# Altium schematic symbol library MICROCHIP.SchLib: 1 symbol
Pins are listed as number, name and electrical type; pins without a type are passive.

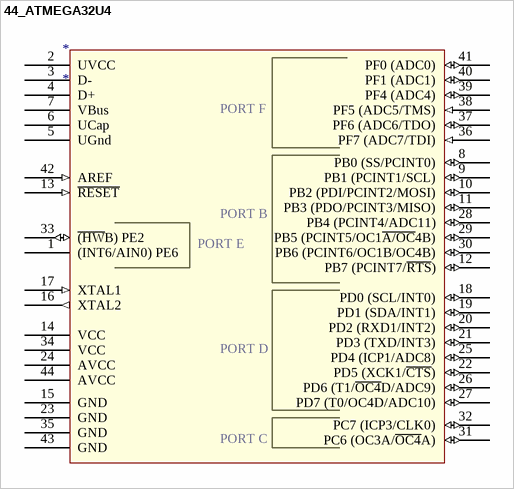
[diagram p0: symbol 44_ATMEGA32U4]

## 44_ATMEGA32U4
designator *
8-Bit AVR, 32KB Flash, 2.5KB SRAM, Native USB 2.0
footprint TQFP44-ATMEGA32U4
pins: 1 (INT6/AIN0) PE6, 2 UVCC (power), 3 D-, 4 D+, 5 UGnd, 6 UCap (power), 7 VBus (power), 8 PB0 (SS/PCINT0) (io), 9 PB1 (PCINT1/SCL) (io), 10 PB2 (PDI/PCINT2/MOSI) (io), 11 PB3 (PDO/PCINT3/MISO) (io), 12 PB7 (PCINT7/~{RTS}) (io), 13 ~{RESET} (in), 14 VCC, 15 GND, 16 XTAL2 (out), 17 XTAL1 (in), 18 PD0 (SCL/INT0) (io), 19 PD1 (SDA/INT1) (io), 20 PD2 (RXD1/INT2) (io), 21 PD3 (TXD/INT3) (io), 22 PD5 (XCK1/~{CTS}) (io), 23 GND, 24 AVCC, 25 PD4 (ICP1/ADC8) (io), 26 PD6 (T1/~{OC4}D/ADC9) (io), 27 PD7 (T0/OC4D/ADC10) (io), 28 PB4 (PCINT4/ADC11) (io), 29 PB5 (PCINT5/OC1~{A/OC}4B) (io), 30 PB6 (PCINT6/OC1B/OC4B) (io), 31 PC6 (OC3A/~{OC4}A) (io), 32 PC7 (ICP3/CLK0) (io), 33 ~{(HW}B) PE2 (io), 34 VCC, 35 GND, 36 PF7 (ADC7/TDI) (in), 37 PF6 (ADC6/TDO) (io), 38 PF5 (ADC5/TMS) (in), 39 PF4 (ADC4) (io), 40 PF1 (ADC1) (io), 41 PF0 (ADC0) (io), 42 AREF (in), 43 GND, 44 AVCC
text: PORT F; PORT B; PORT E; PORT D; PORT C